# Altium footprint library SON_package.PcbLib: 5 footprints
Each footprint in its own frame and in the unit in brackets; x right, y up, seen from the top. Pads: shape width x height; smd on the part's side, far side on the other; paste and mask are expansions set on the pad; w line width, h text height; cw(c..) or ccw(c..) is an arc to the next point about the centre after c.
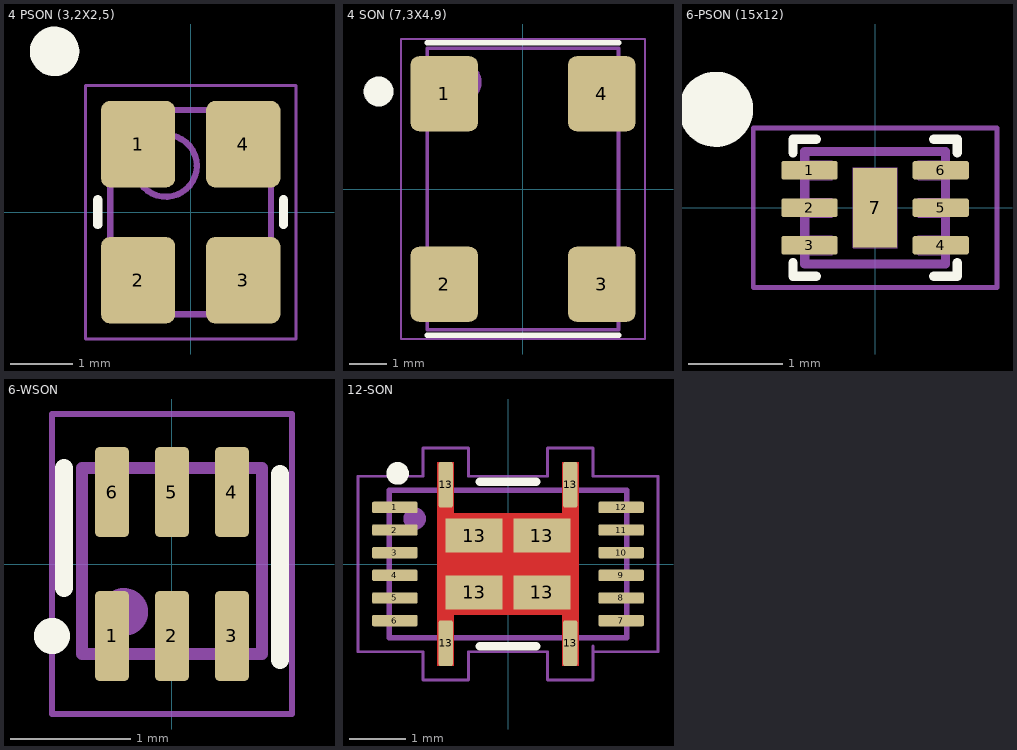
[diagram p0: the footprints below, top view; thin cyan lines are the x and y axes]

## 4 PSON (3,2X2,5) [mm] "PSON, 4-Leads, Body 3,20x2,50mm, Pitch 2,20mm, IPC Medium Density"
height 0.8
pads (4):
  rrect25% 1.2x1.4 smd: 1(-0.85,1.1) 2(-0.85,-1.1) 3(0.85,-1.1) 4(0.85,1.1)
Top Overlay:
  circle w0.4: c-2.2,2.6 r0.2
  lines w0.15: -1.5,-0.2 -1.5,0.2 ; 1.5,-0.2 1.5,0.2
Top Assembly (Mech13):
  circle w0.1: c-0.4,0.75 r0.5
  lines w0.1: -1.3,-1.65 -1.3,1.65 1.3,1.65 1.3,-1.65 -1.3,-1.65
  text ".Designator" at -4.998,-0.333 h1
Top Courtyard:
  lines w0.05: -1.7,-2.05 -1.7,2.05 1.7,2.05 1.7,-2.05 -1.7,-2.05
3D body "PSON220P250X80-4N.step": height 0.8, standoff 0, extent -1.301,-1.65 1.301,1.65

## 4 SON (7,3X4,9) [mm] "SON, 4-Leads, Body 7,30x4,90mm, Pitch 5,08mm, IPC Medium Density"
height 1.9
pads (4):
  rrect25% 1.8x2 smd: 1(-2.1,2.54) 2(-2.1,-2.54) 3(2.1,-2.54) 4(2.1,2.54)
Top Overlay:
  circle w0.4: c-3.85,2.6 r0.2
  lines w0.15: -2.55,-3.9 2.55,-3.9 ; -2.55,3.9 2.55,3.9
Top Assembly (Mech13):
  circle w0.1: c-1.65,2.85 r0.5
  lines w0.1: -2.55,-3.75 2.55,-3.75 2.55,3.75 -2.55,3.75 -2.55,-3.75
  text ".Designator" at -4.998,-0.333 h1
Top Courtyard:
  lines w0.05: -3.25,-4 -3.25,4 3.25,4 3.25,-4 -3.25,-4
3D body "SON508P490X190-4N.step": height 1.9, standoff 0, extent -2.57,-3.75 2.57,3.75

## 6-PSON (15x12) [mm] "PSON, 6-Leads, Body 1,50x1,20mm, Pitch 0,40mm, Thermal Pad 0,47x0,85mm, IPC Medium Density"
height 0.8
pads (7):
  rrect25% 0.6x0.2 smd: 1(-0.7,0.4) 2(-0.7,0) 3(-0.7,-0.4) 4(0.7,-0.4) 5(0.7,0) 6(0.7,0.4)
  rect 0.47x0.85 smd: 7(0,0)
Top Overlay:
  circle w0.4: c-1.7,1.05 r0.2
  lines w0.1: -0.876,-0.586 -0.876,-0.73 -0.626,-0.73 ; -0.876,0.586 -0.876,0.73 -0.626,0.73 ; 0.626,-0.73 0.876,-0.73 0.876,-0.586 ; 0.626,0.73 0.876,0.73 0.876,0.586
Mechanical 8:
  lines w0.013: -0.75,-0.5 -0.46,-0.5 -0.46,-0.3 -0.75,-0.3 -0.75,-0.5 ; -0.75,-0.1 -0.46,-0.1 -0.46,0.1 -0.75,0.1 -0.75,-0.1 ; -0.75,0.3 -0.46,0.3 -0.46,0.5 -0.75,0.5 -0.75,0.3 ; -0.235,-0.425 0.235,-0.425 0.235,0.425 -0.235,0.425 -0.235,-0.425 ; 0.46,-0.5 0.75,-0.5 0.75,-0.3 0.46,-0.3 0.46,-0.5 ; 0.46,-0.1 0.75,-0.1 0.75,0.1 0.46,0.1 0.46,-0.1 ; 0.46,0.3 0.75,0.3 0.75,0.5 0.46,0.5 0.46,0.3
Top Assembly (Mech13):
  lines w0.1: -0.75,-0.6 -0.75,0.6 0.75,0.6 0.75,-0.6 -0.75,-0.6
  text ".Designator" at -4.998,-0.333 h1
Top Courtyard:
  lines w0.05: -1.3,-0.85 -1.3,0.85 1.3,0.85 1.3,-0.85 -1.3,-0.85
3D body "QFN40P150X120X80_HS-7N.step": height 0.8, standoff 0, extent -0.78,-0.6 0.78,0.6

## 6-WSON [mm]
pads (6):
  rrect25% 0.28x0.75 smd: 1(-0.5,-0.6) 2(0,-0.6) 3(0.5,-0.6) 4(0.5,0.6) 5(0,0.6) 6(-0.5,0.6)
Top Overlay:
  circle w0.2: c-1,-0.6 r0.05
  lines w0.15: -0.9,-0.2 -0.9,0.8 ; 0.9,-0.8 0.9,0.75
Top Assembly (Mech13):
  circle w0.2: c-0.4,-0.4 r0.1
  lines w0.1: -0.75,-0.75 -0.75,0.8 0.75,0.8 0.75,-0.75 -0.75,-0.75
  text ".Designator" at -4.998,-0.333 h1
Top Courtyard:
  lines w0.05: -1,-1.25 1,-1.25 1,1.25 -1,1.25 -1,-1.25
3D body "User Library-DSE(S-PDSO-N6).step": height 0.75, standoff 0, extent -0.75,-0.77 0.75,0.77

## 12-SON [mm]
pads (20):
  rrect25% 0.8x0.2 smd: 1(-2,1) 2(-2,0.6) 3(-2,0.2) 4(-2,-0.2) 5(-2,-0.6) 6(-2,-1) 7(2,-1) 8(2,-0.6) 9(2,-0.2) 10(2,0.2) 11(2,0.6) 12(2,1)
  rrect25% 0.25x0.8 smd: 13(-1.1,-1.4) 13(-1.1,1.4) 13(1.1,-1.4) 13(1.1,1.4)
  rect 1x0.6 smd: 13(-0.6,-0.5) 13(-0.6,0.5) 13(0.6,-0.5) 13(0.6,0.5)
Top Layer:
  rectangle: -1.25,-1.8 -0.95,1.8
  rectangle: 0.95,-1.8 1.25,1.8
  rectangle: -1.25,-0.9 1.25,0.9
Top Overlay:
  circle w0.2: c-1.95,1.6 r0.1
  lines w0.15: -0.5,-1.45 0.5,-1.45 ; -0.5,1.45 0.5,1.45
Top Assembly (Mech13):
  circle w0.2: c-1.65,0.8 r0.1
  lines w0.1: -2.1,-1.3 2.1,-1.3 2.1,1.3 -2.1,1.3 -2.1,-1.3
  text ".Designator" at -4.998,-0.333 h1
Top Courtyard:
  lines w0.05: 1.5,-1.55 2.65,-1.55 2.65,1.55 1.5,1.55 1.5,2.05 0.7,2.05 0.7,1.55 -0.7,1.55 -0.7,2.05 -1.5,2.05 -1.5,1.55 -2.65,1.55 -2.65,-1.5 -2.65,-1.55 -1.5,-1.55 -1.5,-2.05 -0.7,-2.05 -0.7,-1.55 0.7,-1.55 0.7,-2.05 1.5,-2.05 1.5,-1.45
3D body "User Library-SON-12-2.step": height 1, standoff -0.05, extent -2.075,-1.3 2.075,1.3